# Altium footprint library CSS2H-2512.PcbLib: 1 footprints
Each footprint in its own frame and in the unit in brackets; x right, y up, seen from the top. Pads: shape width x height; smd on the part's side, far side on the other; paste and mask are expansions set on the pad; w line width, h text height; cw(c..) or ccw(c..) is an arc to the next point about the centre after c.
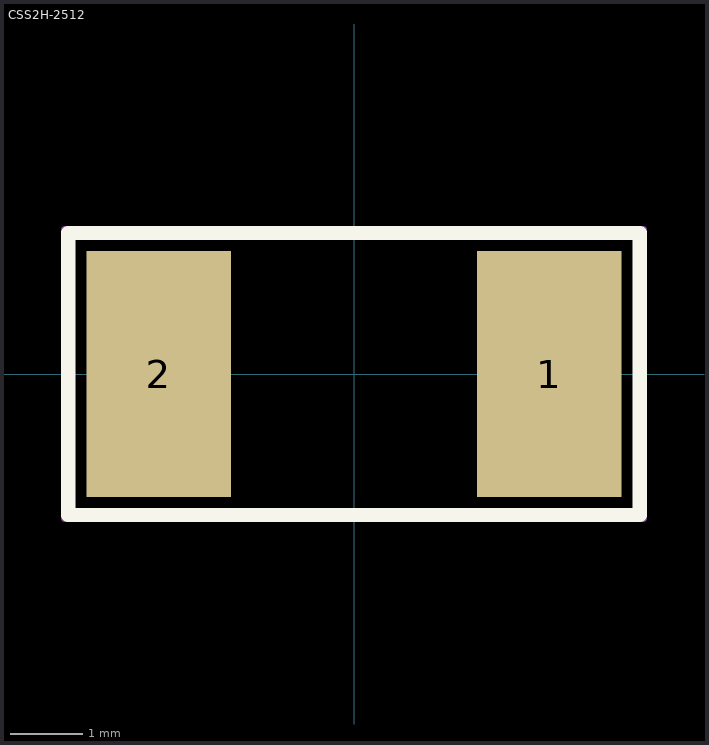
[diagram p0: the footprint, top view; thin cyan lines are the x and y axes]

## CSS2H-2512 [mm]
pads (2):
  rect 2x3.4 smd: 1(2.7,0) 2(-2.7,0)
Top Overlay:
  lines w0.2: -3.95,-1.95 -3.95,1.95 3.95,1.95 3.95,-1.95 -3.95,-1.95
Top Courtyard:
  lines w0.1: -4,-2 -4,2 4,2 4,-2 -4,-2
3D body "CSS2H-2512.stp": height 0.83, standoff 0, extent -3.175,-1.525 3.175,1.525